# Altium schematic symbol library Schlib1.SchLib: 12 symbols
Pins are listed as number, name and electrical type; pins without a type are passive.

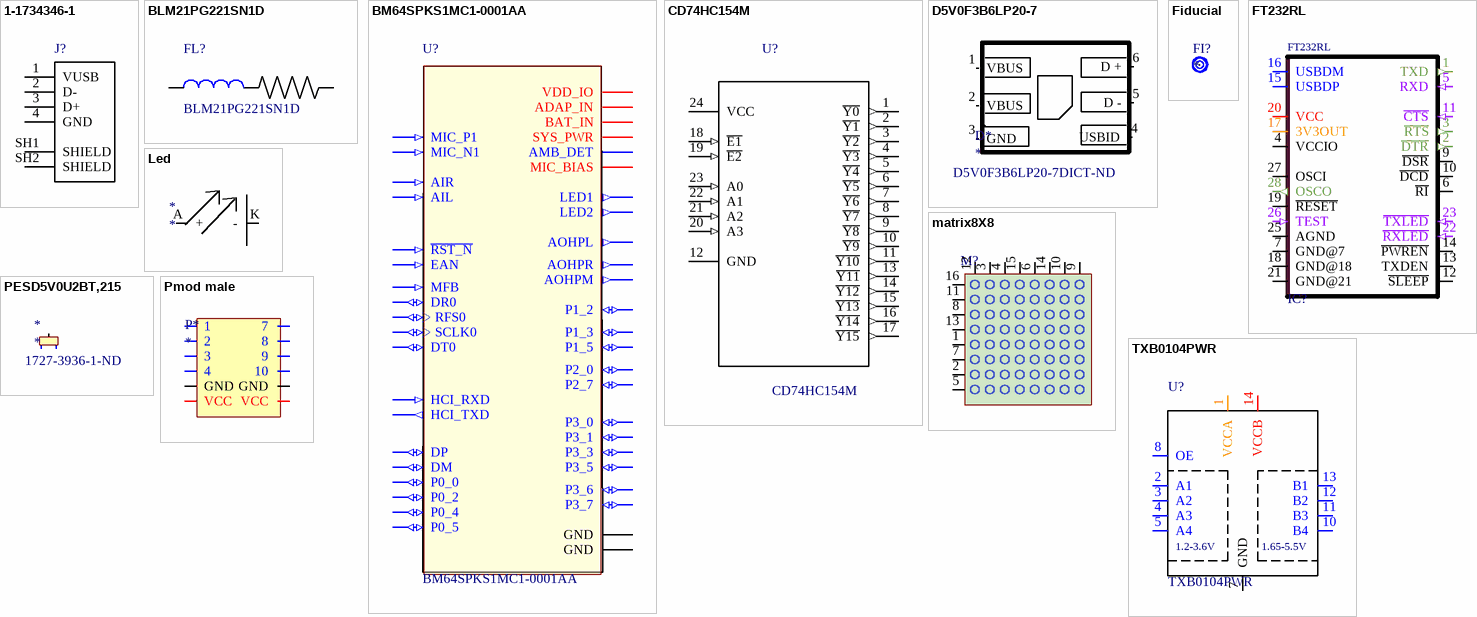
[diagram p0: symbols 1-1734346-1 to TXB0104PWR]

## 1-1734346-1
designator J?  (value not drawn)
Conn USB 2.0 Type B RCP 4 POS 1.25mm Solder RA SMD 4 Terminal 1 Port T/R; MF: TE Connectivity; MP: 1-1734346-1; SnapEDA_Link: https://www.snapeda.com/parts/1-1734346-1/TE%20Connectivity%20AMP%20Connectors/view-part/512451/?ref=snap; EU_RoHS_Compliance: Compliant; Digi-Key_Part_Number: A110862CT-ND; DigiKey-Purchase-URL: https://snapeda.com/shop?store=DigiKey&id=512451; Package: None; Value: *
footprint *TE_1-1734346-1_1-1734346-1(Primary)
pins: 1 VUSB, 2 D-, 3 D+, 4 GND, SH1 SHIELD, SH2 SHIELD

## BLM21PG221SN1D
designator FL?
220 Ohms @ 100MHz 1 Power Line Ferrite Bead 0805 (2012 Metric) 2A 45mOhm; MF: Murata; Package: 2012 Murata; Digi-Key_Part_Number: 490-1054-1-ND; SnapEDA_Link: https://www.snapeda.com/parts/BLM21PG221SN1D/Murata/view-part/12270/?ref=snap; MP: BLM21PG221SN1D; Value: *
footprint *BEADC2012X105N
pins: 1, 2

## BM64SPKS1MC1-0001AA
designator U?
Bluetooth Bluetooth v5.0 Transceiver Module 2.4GHz Integrated, Trace Surface Mount; MF: Microchip; Availability: Unavailable; Package: Module Microchip; Price: None; MP: BM64SPKS1MC1-0001AA; SnapEDA_Link: https://www.snapeda.com/parts/BM64SPKS1MC1-0001AA/Microchip/view-part/613145/?ref=snap; Value: *
footprint *MODULE_BM64SPKS1MC1-0001AA
pins: 1 DR0 (io), 2 RFS0 (io), 3 SCLK0 (io), 4 DT0 (io), 5 AOHPR (out), 6 AOHPM (out), 7 AOHPL (out), 8 MIC_N1 (in), 9 MIC_P1 (in), 10 MIC_BIAS (power), 11 AIR (in), 12 AIL (in), 13 ~{RST_N} (in), 14 GND (power), 15 P1_2 (io), 16 P1_3 (io), 17 P0_4 (io), 18 P1_5 (io), 19 HCI_RXD (in), 20 HCI_TXD (out), 21 VDD_IO (power), 22 BAT_IN (power), 23 ADAP_IN (power), 24 SYS_PWR (power), 25 AMB_DET (power), 26 MFB (in), 27 LED2 (out), 28 LED1 (out), 29 P3_7 (io), 30 P3_5 (io), 31 P0_0 (io), 32 EAN (in), 33 DM (io), 34 DP (io), 35 P0_5 (io), 36 P3_0 (io), 37 P3_1 (io), 38 P3_3 (io), 39 P3_6 (io), 40 P0_2 (io), 41 P2_0 (io), 42 P2_7 (io), 43 GND (power)

## CD74HC154M
designator U?
Decoder/Demultiplexer 1 x 4:16 24-SOIC; MF: Texas Instruments; MP: CD74HC154M; SnapEDA_Link: https://www.snapeda.com/parts/CD74HC154M/Texas%20Instruments/view-part/231174/?ref=snap; Availability: Unavailable; Package: SOIC-24 Texas Instruments; Price: None; Value: *
footprint *SOIC127P1030X265-24N
pins: 1 ~{Y0} (out), 2 ~{Y1} (out), 3 ~{Y2} (out), 4 ~{Y3} (out), 5 ~{Y4} (out), 6 ~{Y5} (out), 7 ~{Y6} (out), 8 ~{Y7} (out), 9 ~{Y8} (out), 10 ~{Y9} (out), 11 ~{Y10} (out), 12 GND, 13 ~{Y11} (out), 14 ~{Y12} (out), 15 ~{Y13} (out), 16 ~{Y14} (out), 17 ~{Y15} (out), 18 ~{E1} (in), 19 ~{E2} (in), 20 A3 (in), 21 A2 (in), 22 A1 (in), 23 A0 (in), 24 VCC (power)

## D5V0F3B6LP20-7
designator D*  Supplier Part Number 1: D5V0F3B6LP20-7DICT-ND
TVS DIODE 5.5V 14V U-DFN2020-6; Manufacturer 1: Diodes; Manufacturer Part Number 1: D5V0F3B6LP20-7; Number of Bidirectional Channels: 3; Min Breakdown Voltage: 6V; Power Line Protection: No; Peak Pulse Current: 1A; Supplier 1: Digi-Key; Stock 1: 6997; Pricing 1: 1=0,58000, 10=0,51000, 100=0,39090, 500=0,30900, 1000=0,24720 (USD); RoHS: Yes; Mount: Surface Mount; Min Operating Temperature: -65°C; Max Operating Temperature: 150°C; Packaging: Tape and Reel; Reverse Standoff Voltage: 5.5V; Clamping Voltage: 14V; Composition: Zener; ComponentLink1URL: http://www.mouser.com/ds/2/115/D5V0F3B6LP20-765661.pdf?src-supplier=Mouser; ComponentLink1Description: http://www.mouser.com/ds/2/115/D5V0F3B6LP20-765661.pdf?src-supplier=Mouser; ComponentLink2URL: https://www.diodes.com/assets/Datasheets/D5V0F3B6LP20.pdf?src-supplier=Digi-Key; ComponentLink2Description: https://www.diodes.com/assets/Datasheets/D5V0F3B6LP20.pdf?src-supplier=Digi-Key
footprint Diode
pins: 1 VBUS, 2 VBUS, 3 GND, 4 USBID, 5 D -, 6 D +

## Fiducial
designator FI?
Fiducial 40 mil
footprint Fiducial (40mil Fiducial)
pins: 1 17

## FT232RL
designator IC?  (value not drawn)
USB-to-UART 1-CH 256Byte FIFO 5V 28-Pin SSOP; MF: FTDI, Future; MP: FT232RL; Availability: Unavailable; Package: SSOP-28 FTDI, Future; SnapEDA_Link: https://www.snapeda.com/parts/FT232RL/FTDI%2C%20Future%20Technology%20Devices%20International%20Ltd/view-part/?ref=snap; Price: None; Value: *
footprint *SSOP28-LD
pins: 1 TXD (out), 2 ~{DTR} (out), 3 ~{RTS} (out), 4 VCCIO (power), 5 RXD (in), 6 ~{RI}, 7 GND@7 (power), 9 ~{DSR}, 10 ~{DCD}, 11 ~{CTS} (in), 12 ~{SLEEP}, 13 TXDEN, 14 ~{PWREN}, 15 USBDP (io), 16 USBDM (io), 17 3V3OUT (power), 18 GND@18 (power), 19 ~{RESET}, 20 VCC (power), 21 GND@21 (power), 22 ~{RXLED} (in), 23 ~{TXLED} (in), 25 AGND (power), 26 TEST (in), 27 OSCI, 28 OSCO (out)

## Led
designator *
footprint Led
pins: A +, K -

## matrix8X8
designator M?  (value not drawn)
footprint Matrix8X8
footprint Matrix Led
pins: 1 5 (in), 2 6 (in), 3 7 (out), 4 8 (out), 5 9 (in), 6 10 (out), 7 (in), 8 (in), 9 (out), 10 (out), 11 (in), 12 (out), 13 (in), 14 (out), 15 (out), 16 (in)

## PESD5V0U2BT,215
designator *  Supplier Part Number 1: 1727-3936-1-ND
TVS DIODE 5V SOT23; Manufacturer 1: Nexperia; Manufacturer Part Number 1: PESD5V0U2BT,215; Supplier 1: Digi-Key; Stock 1: 61061; Pricing 1: 1=0,44000, 10=0,35300, 100=0,24020, 500=0,18012, 1000=0,13510 (USD); RoHS: No; ComponentLink1URL: https://assets.nexperia.com/documents/data-sheet/PESD5V0U2BT.pdf?src-supplier=Digi-Key; ComponentLink1Description: https://assets.nexperia.com/documents/data-sheet/PESD5V0U2BT.pdf?src-supplier=Digi-Key
footprint *SOT95P230X110-3N
pins: 1, 2, 3

## Pmod male
designator P*
p mod male 6 position 2 rows
footprint 901220766
pins: 1, 2, 3, 4, 5 GND, 6 VCC, 7, 8, 9, 10, 11 GND, 12 VCC

## TXB0104PWR
designator U?
4-Bit Bidirectional Voltage-Level Shifter with Auto Direction Sensing and +/-15 kV ESD Protect 14-TSSOP -40 to 85; MF: Texas Instruments; SnapEDA_Link: https://www.snapeda.com/parts/TXB0104PWR/Texas%20Instruments/view-part/?ref=snap; MP: TXB0104PWR; Availability: Unavailable; Price: None; Package: TSSOP-14 Texas Instruments; Value: *
footprint *TSSOP14
pins: 1 VCCA (io), 2 A1 (io), 3 A2 (io), 4 A3 (io), 5 A4 (io), 7 GND (io), 8 OE (io), 10 B4 (io), 11 B3 (io), 12 B2 (io), 13 B1 (io), 14 VCCB (io)
text: 1.2-3.6V; 1.65-5.5V